# EAGLE library part PE-63388NL (library PE-63388NL)
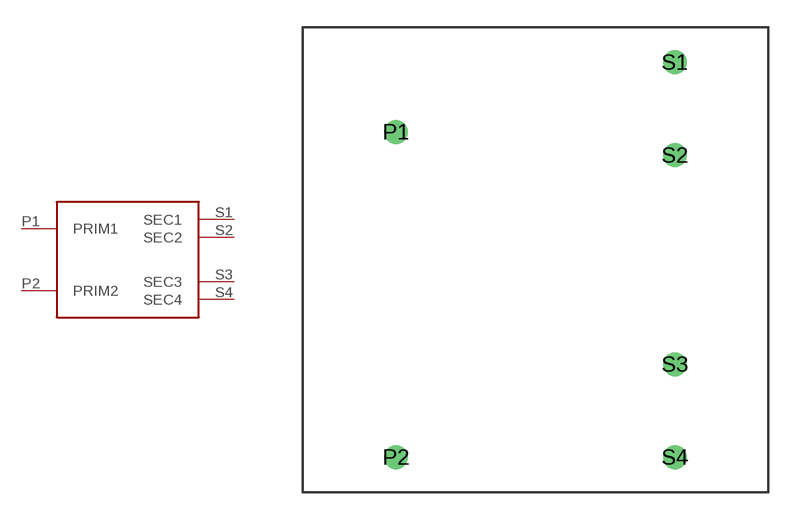
[diagram p0: symbol with the pads of PE-633XXNL; footprint PE-633XXNL]

Designator prefix -

## PE-63388NL  [PE-633XXNL]
P1  PRIM1
P2  PRIM2
S1  SEC1
S2  SEC2
S3  SEC3
S4  SEC4

## Footprint PE-633XXNL (pad centres in mm)
drill 0.8: P1 0,0; P2 0,-17.78; S1 15.24,3.81; S2 15.24,-1.27; S3 15.24,-12.7; S4 15.24,-17.78